# Altium schematic symbol library SchemaLibrary.SCHLIB: 20 symbols
Pins are listed as number, name and electrical type; pins without a type are passive.

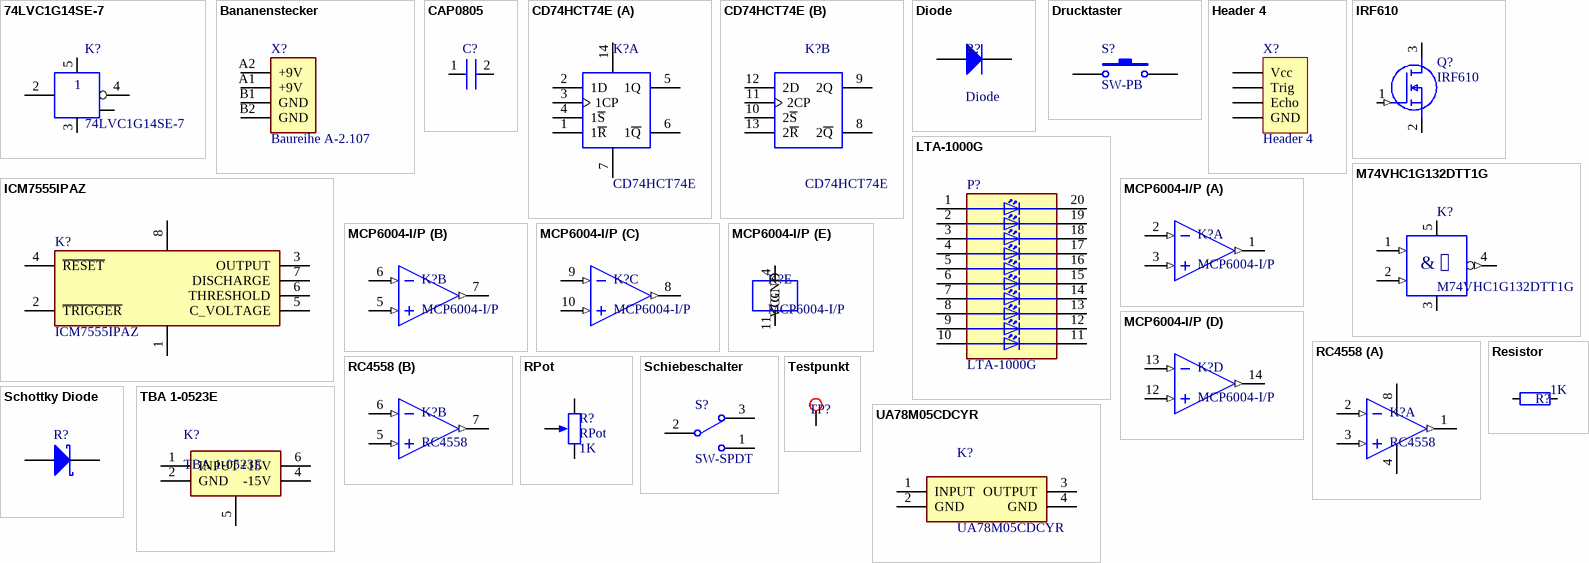
[diagram p0: symbols 74LVC1G14SE-7 to UA78M05CDCYR]

## 74LVC1G14SE-7
designator K?
Integrated Circuit; Manufacturer_Name: Diodes Inc.; Manufacturer_Part_Number: 74AHC1G04SE-7; Datasheet Link: https://componentsearchengine.com/Datasheets/2/74AHC1G04SE-7.pdf; Height: 1.1mm; Arrow Part Number: 74AHC1G04SE-7; Arrow Price/Stock: https://www.arrow.com/en/products/74ahc1g04se-7/diodes-incorporated; Mouser Part Number: 621-74AHC1G04SE-7; Mouser Price/Stock: https://www.mouser.com/Search/Refine.aspx?Keyword=621-74AHC1G04SE-7
footprint okSOT23-5 (SOT23-5)
pins: 1 NC, 2 A, 3 GND, 4 Y, 5 Vcc

## Bananenstecker
designator X?, comment Baureihe A-2.107
Laborgerätanschluss, 4mm; LatestRevisionDate: 17-Jul-2002; LatestRevisionNote: Re-released for DXP Platform.; Publisher: Altium Limited
footprint ok24.243.X (Bananenstecker)
pins: A1 +9V, A2 +9V, B1 GND, B2 GND

## CAP0805
designator C?
Capacitor; Manufacturer_Name: AVX; Manufacturer_Part_Number: 08055A101JAT2A; Datasheet Link: https://componentsearchengine.com/Datasheets/1/06031A100FAT2A.pdf; Height: 0.94mm; Arrow Part Number: 08055A101JAT2A; Arrow Price/Stock: https://www.arrow.com/en/products/08055a101jat2a/avx; Mouser Part Number: 581-08055A101J; Mouser Price/Stock: https://www.mouser.co.uk/ProductDetail/AVX/08055A101JAT2A?qs=o9qE778H9QGBR%2FfSpI%2FCIw%3D%3D
footprint okCAP CER 1206 H (1206 ceramic capacitor for hand soldering)
pins: 1, 2

## CD74HCT74E
designator K?
Integrated Circuit; Manufacturer_Name: Texas Instruments; Datasheet Link: http://www.ti.com/lit/gpn/cd74hct74; Height: 5.08mm; Manufacturer_Part_Number: CD74HCT74E; Arrow Part Number: CD74HCT74E; Arrow Price/Stock: https://www.arrow.com/en/products/cd74hct74e/texas-instruments; Mouser Part Number: 595-CD74HCT74E; Mouser Price/Stock: https://www.mouser.com/Search/Refine.aspx?Keyword=595-CD74HCT74E
footprint okDIP14-300 (DIP14 300mil width)
part A pins: 1 1~{R}, 2 1D, 3 1CP, 4 1~{S}, 5 1Q, 6 1~{Q}, 7 GND, 14 VCC
part B pins: 8 2~{Q}, 9 2Q, 10 2~{S}, 11 2CP, 12 2D, 13 2~{R}

## Diode
designator R?
LatestRevisionDate: 03.04.2019; Publisher: ICT Berufsbildungscenter AG
footprint okDiode 10mm (Diode for tht mounting with a 10mm pitch)
pins: A Anode, C Cathode

## Drucktaster
designator S?, comment SW-PB
Switch, SMD; Published: 24-Mar-1999; LatestRevisionDate: 17-Jul-2002; LatestRevisionNote: Re-released for DXP Platform.; PackageReference: SPST-2; Publisher: Altium Limited; PackageDescription: Switch; 2 Leads
footprint okdrucktaster
pins: 1, 4

## Header 4
designator X?
Header, 4-Pin; LatestRevisionDate: 17-Jul-2002; LatestRevisionNote: Re-released for DXP Platform.; Publisher: Altium Limited
footprint okHeader Female 4pin
pins: 1 Vcc, 2 Trig, 3 Echo, 4 GND

## ICM7555IPAZ
designator K?
Integrated Circuit; Manufacturer_Name: Intersil; Manufacturer_Part_Number: ICM7555CBAZ; Datasheet Link: http://componentsearchengine.com/Datasheets/3/ICM7555CBAZ.pdf; Height: 1.75mm; Arrow Part Number: ICM7555CBAZ; Arrow Price/Stock: https://www.arrow.com/en/products/icm7555cbaz/intersil; Mouser Part Number: 968-ICM7555CBAZ; Mouser Price/Stock: http://www.mouser.com/Search/ProductDetail.aspx?qs=9fLuogzTs8L0U86ICDKxeg%3d%3d
footprint okDIP8-300 (DIP8 300mil width)
pins: 1 GND, 2 ~{TRIGGER}, 3 OUTPUT, 4 ~{RESET}, 5 C_VOLTAGE, 6 THRESHOLD, 7 DISCHARGE, 8 VDD

## IRF610
designator Q?
MOSFET (N-Channel); Reset; Manufacturer_Name: Nexperia; Manufacturer_Part_Number: 2N7002; Datasheet Link: http://docs-emea.rs-online.com/webdocs/1385/0900766b813856ab.pdf; Height: 1.1mm; Arrow Part Number: 2N7002; Mouser Part Number: N/A; Mouser Price/Stock: https://www.mouser.com/Search/Refine.aspx?Keyword=N%2FA
footprint okTO-220-1 (TO-220-1)
pins: 1 G (in), 2 S, 3 D

## LTA-1000G
designator P?
Display; Manufacturer_Name: Lite-On; Datasheet Link: https://optoelectronics.liteon.com/upload/download/DS-30-92-0809/A1000G.pdf; Height: 8.25mm; Manufacturer_Part_Number: LTA-1000G; Arrow Part Number: LTA-1000G; Arrow Price/Stock: https://www.arrow.com/en/products/lta-1000g/lite-on-technology; Mouser Part Number: 859-LTA-1000G; Mouser Price/Stock: https://www.mouser.co.uk/ProductDetail/Lite-On/LTA-1000G?qs=%2FTKcI5XXRKq0QINzVmwJHg%3D%3D
footprint okDIP20
pins: 1 ANODE_A, 2 ANODE_B, 3 ANODE_C, 4 ANODE_D, 5 ANODE_E, 6 ANODE_F, 7 ANODE_G, 8 ANODE_H, 9 ANODE_J, 10 ANODE__K, 11 CATHODE_K, 12 CATHODE_J, 13 CATHODE_H, 14 CATHODE_G, 15 CATHODE_F, 16 CATHODE_E, 17 CATHODE_D, 18 CATHODE_C, 19 CATHODE_B, 20 CATHODE_A

## M74VHC1G132DTT1G
designator K?
Integrated Circuit; Manufacturer_Name: ON Semiconductor; Manufacturer_Part_Number: M74VHC1G132DFT1G; Datasheet Link: http://www.onsemi.com/pub/Collateral/MC74VHC1G132-D.PDF; Height: 1.1mm; Arrow Part Number: M74VHC1G132DFT1G; Mouser Part Number: 863-M74VHC1G132DFT1G; Mouser Price/Stock: https://www.mouser.co.uk/ProductDetail/ON-Semiconductor/M74VHC1G132DFT1G?qs=3JMERSakeboO%2F%2FN0rc0eEw%3D%3D
footprint okTSOP-5 (TSOP, 6-Leads, Body 3.00x1.50mm, Pitch 0.95mm, IPC Medium Density)
pins: 1 A (in), 2 B (in), 3 GND (power), 4 ~{Y} (out), 5 VCC (power)
text: &; ⎎

## MCP6004-I/P
designator K?
Quad OPAMP / Single Supply 1.8-6.3V / Rail to Rail; Supplier 1: Mouser; Supplier Part Number 1: 579-MCP6004-I/P
footprint okDIP14-300 (DIP14 300mil width)
part A pins: 1 VOUTA (out), 2 VINA- (in), 3 VINA+ (in)
part B pins: 5 VINB+ (in), 6 VINB- (in), 7 VOUTB (out)
part C pins: 8 VOUTC (out), 9 VINC- (in), 10 VINC+ (in)
part D pins: 12 VIND+ (in), 13 VIND- (in), 14 VOUTD (out)
part E pins: 4 VCC (power), 11 GND (power)

## RC4558
designator K?
Dual OPAMP / Dual Supply 5-15V; Supplier 1: Mouser; Supplier Part Number 1: 595-RC4558P
footprint okDIP8-300 (DIP8 300mil width)
part A pins: 1 OUT1 (out), 2 IN1- (in), 3 IN1+ (in), 4 V- (power), 8 V+ (power)
part B pins: 5 IN2+ (in), 6 IN2- (in), 7 OUT2 (out)

## Resistor
designator R?  value 1K  (hidden comment: Resistor)
LatestRevisionDate: 02.04.2019; Publisher: ICT Berufsbildungscenter AG
footprint okRES 10mm (resistor for tht mounting with a 10mm pitch)
pins: 1, 2

## RPot
designator R?  value 1K
Potentiometer; Sim Note: Enter the Resistance value and the set point into parameter fields.; Set Position: 0.5; Published: 8-Jun-2000; LatestRevisionDate: 17-Jul-2002; LatestRevisionNote: Re-released for DXP Platform.; PackageReference: VR5; Publisher: Altium Limited; PackageDescription: Variable Resistor, Thru-Hole; 3 Leads
footprint ok3362P
footprint ok3386F
pins: 1 BOT, 2 TAP, 3 TOP
1 alternate drawing of the same symbol

## Schiebeschalter
designator S?, comment SW-SPDT
Switch, THT; Published: 24-Mar-1999; LatestRevisionDate: 17-Dec-2003; LatestRevisionNote: Schematic revised, PCB Footprint replaced.; DatasheetVersion: 05-Dec-2000; PackageReference: TL36WW15050; Publisher: Altium Limited; PackageDescription: Switch; 4 Leads; ComponentLink1Description: Manufacturer Link; ComponentLink1URL: http://www.apem.com
footprint okSCHIEBESCHALTER
pins: 1, 2, 3

## Schottky Diode
designator R?
Schottky Diode; Note: Terminal 2 is the TAB and is electrically connected to the cathode; Published: 8-Jun-2000; LatestRevisionDate: 17-Jul-2002; LatestRevisionNote: Re-released for DXP Platform.; DatasheetVersion: PD-2.057B; PackageVersion: Feb-1998; PackageReference: TO-220AC; Publisher: Altium Limited; PackageDescription: TO, Thru-Hole, Vertical, Heatsink Mounted; 3 In-Line Leads (1 Absent); Pitch 2.54 mm; ComponentLink1Description: Manufacturer Link; ComponentLink1URL: http://www.irf.com/; ComponentLink2Description: Datasheet; ComponentLink2URL: http://www.irf.com/product-info/datasheets/data/10tq.pdf
footprint okDiode DO-214AA SMB H (Diode in DO-214AA (same as SMB) package for hand soldering)
pins: 1 K, 3 A

## TBA 1-0523E
designator K?
DC/DC
footprint okTBA 1-0523E
pins: 1 INPUT, 2 GND, 4 -15V, 5 NC, 6 +15V

## Testpunkt
designator TP?, comment Lötstützpunkt  (value not drawn)
footprint okLötstützpunkt
pins: 1

## UA78M05CDCYR
designator K?
Integrated Circuit; Manufacturer_Name: Texas Instruments; Datasheet Link: http://www.ti.com/lit/gpn/ua78m; Height: 1.8mm; Manufacturer_Part_Number: UA78M05CDCYR; Arrow Part Number: UA78M05CDCYR; Arrow Price/Stock: https://www.arrow.com/en/products/ua78m05cdcyr/texas-instruments; Mouser Part Number: 595-UA78M05CDCYR; Mouser Price/Stock: https://www.mouser.co.uk/ProductDetail/Texas-Instruments/UA78M05CDCYR?qs=Tv815z3GeNQBLgK%2F7rn3pg%3D%3D
footprint okSOT23-UA78M05
pins: 1 INPUT, 2 GND, 3 OUTPUT, 4 GND